# Altium footprint library Foot_Lib_revision.PcbLib: 31 footprints (part 2 of 2)
Each footprint in its own frame and in the unit in brackets; x right, y up, seen from the top. Pads: shape width x height; smd on the part's side, far side on the other; paste and mask are expansions set on the pad; w line width, h text height; cw(c..) or ccw(c..) is an arc to the next point about the centre after c.
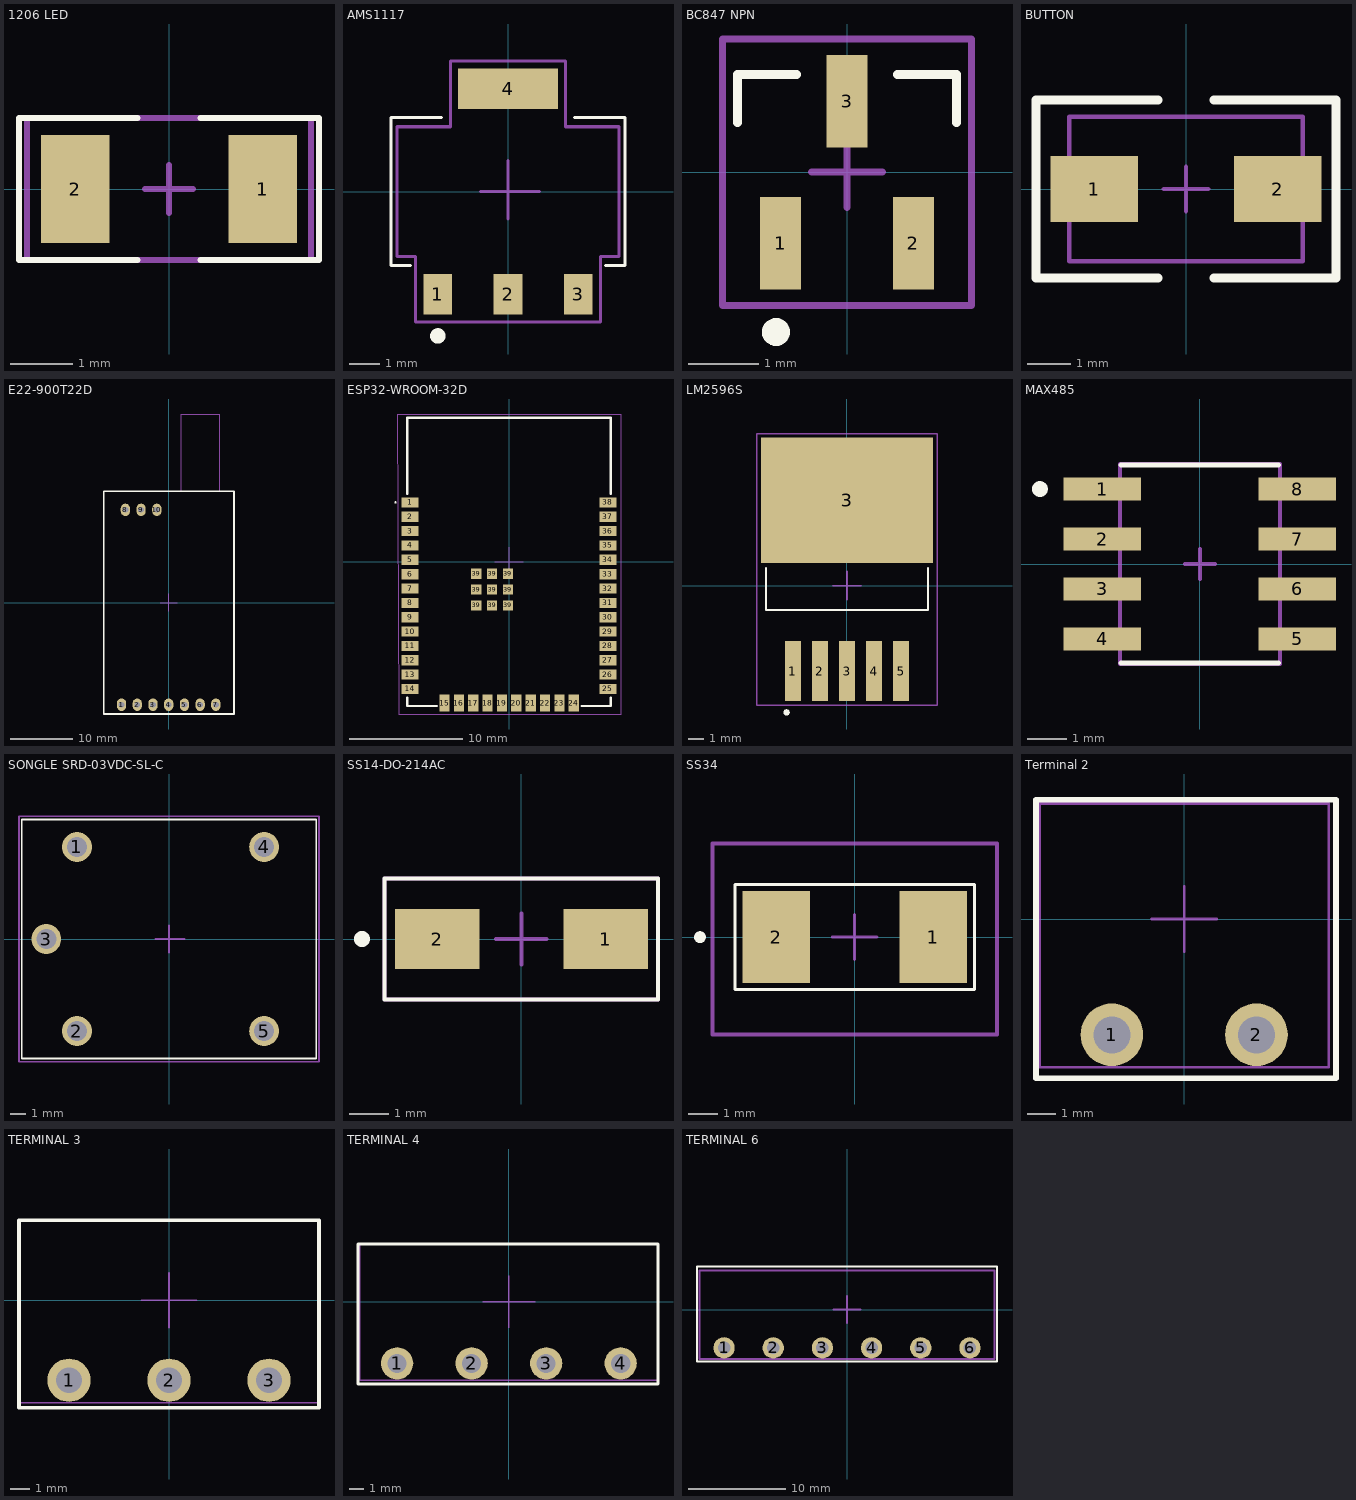
[diagram p1: the footprints below, top view; thin cyan lines are the x and y axes]

## 1206 LED [mm]
pads (2):
  rect 1.1x1.73 smd: 1(1.51,0) 2(-1.51,0)
Top Overlay:
  lines w0.1: -0.508,-1.143 -2.413,-1.143 -2.413,1.143 -0.508,1.143 ; 0.508,-1.143 2.413,-1.143 2.413,1.143 0.508,1.143
Top Component Center:
  lines w0.1: -0.381,0 0,0 ; 0,-0.381 0,0 ; 0,0.381 0,0 ; 0.381,0 0,0 ; -2.286,-1.143 2.286,-1.143 2.286,1.143 -2.286,1.143 -2.286,-1.143
Top Designator:
  text ".Designator" at -0.127,-0.127 h1.52
3D body "LED_1206_Green (1).stp": height 0.9, standoff 0, extent -1.644,-0.806 1.626,0.844

## AMS1117 [mm]
pads (4):
  rect 0.93x1.31 smd: 1(-2.29,-3.345) 2(0,-3.345) 3(2.29,-3.345)
  rect 3.24x1.31 smd: 4(0,3.345)
Top Overlay:
  circle w0.3: c-2.286,-4.699 r0.1
  lines w0.1: -3.175,-2.413 -3.81,-2.413 -3.81,2.413 -3.302,2.413 -2.413,2.413 -2.159,2.413 ; 2.159,2.413 2.442,2.413 3.81,2.413 3.81,-2.413 ; 3.175,-2.413 3.803,-2.413
Top Component Center:
  lines w0.1: -0.889,0 0,0 ; 0,-0.889 0,0 ; 0,1.016 0,0 ; 1.016,0 0,0 ; -3.61,-2.11 -3.61,2.11 -1.87,2.11 -1.87,4.25 1.87,4.25 1.87,2.11 3.61,2.11 3.61,-2.11 3.01,-2.11 3.01,-4.25 -3.01,-4.25 -3.01,-2.11 -3.61,-2.11
Top Designator:
  text ".Designator" at -2.794,0 h1.52
3D body "AMS1117-3.3--3DModel-STEP-56544.STEP": height 1.77, standoff -0.04, extent -3.251,-3.372 3.251,3.626

## BC847 NPN [mm]
pads (3):
  rect 0.59x1.32 smd: 1(-0.95,-1.015) 2(0.95,-1.015) 3(0,1.015)
Top Overlay:
  circle w0.2: c-1.016,-2.286 r0.1
  lines w0.127: -1.566,0.712 -1.566,1.397 -0.721,1.397 ; 0.72,1.397 1.565,1.397 1.565,0.712
Top Component Center:
  lines w0.1: -0.508,0 0,0 ; 0,-0.508 0,0 ; 0,0.508 0,0 ; 0.508,0 0,0 ; -1.778,-1.905 1.778,-1.905 1.778,1.905 -1.778,1.905 -1.778,-1.905
Top Designator:
  text ".Designator" at -0.127,-0.127 h1.52
3D body "step_temp.STEP": height 1.3, standoff 0, extent -1.45,-1.185 1.45,1.185

## BUTTON [mm]
pads (2):
  rect 2x1.5 smd: 1(-2.1,0) 2(2.1,0)
Top Overlay:
  lines w0.2: -0.635,-2.032 -3.429,-2.032 -3.429,2.032 -0.635,2.032 ; 0.635,-2.032 3.429,-2.032 3.429,2.032 0.635,2.032
Top Component Center:
  lines w0.1: -0.508,0 0,0 ; 0,-0.508 0,0 ; 0,0.508 0,0 ; 0.508,0 0,0 ; -2.667,-1.651 -2.667,1.651 2.667,1.651 2.667,-1.651 -2.667,-1.651
Top Designator:
  text ".Designator" at -1.397,-0.127 h1.52
3D body "skrkaee010.stp": height 2, standoff 0, extent -2.4,-1.524 2.4,1.376

## E22-900T22D [mm]
pads (10):
  oval 1.5x2 hole 0.95 mask+0.05: 1(-7.62,-16.5) 2(-5.08,-16.5) 3(-2.54,-16.5) 4(0,-16.5) 5(2.54,-16.5) 6(5.08,-16.5) 7(7.62,-16.5) 8(-7,15) 9(-4.46,15) 10(-1.92,15)
Top Overlay:
  lines w0.3: -10.5,-18 -10.5,18 10.58,18 10.58,-18 -10.5,-18
Top Component Center:
  lines w0.1: -1.4,0 0,0 ; 0,-1.4 0,0 ; 0,1.4 0,0 ; 1.4,0 0,0 ; 2.032,18.034 2.032,30.48 8.255,30.48 8.255,18.034 ; -10.5,-18 -10.5,18 10.6,18 10.6,-18 -10.5,-18
Top Designator:
  text ".Designator" at -0.127,-0.127 h1.52
3D body "E32-433T20DTyitteerstnoluyyp.STEP": height 7.9, standoff -5.72, extent -10.47,-18.02 10.53,30.48

## ESP32-WROOM-32D [mm]
pads (47):
  rect 1.5x0.9 smd: 1(-8.743,5.259) 2(-8.743,3.989) 3(-8.743,2.719) 4(-8.743,1.449) 5(-8.743,0.179) 6(-8.743,-1.091) 7(-8.743,-2.361) 8(-8.743,-3.631) 9(-8.743,-4.901) 10(-8.743,-6.171) 11(-8.743,-7.441) 12(-8.743,-8.711) 13(-8.743,-9.981) 14(-8.743,-11.251) 25(8.757,-11.251) 26(8.757,-9.981) 27(8.757,-8.711) 28(8.757,-7.441) 29(8.757,-6.171) 30(8.757,-4.901) 31(8.757,-3.631) 32(8.757,-2.361) 33(8.757,-1.091) 34(8.757,0.179) 35(8.757,1.449) 36(8.757,2.719) 37(8.757,3.989) 38(8.757,5.259)
  rect 0.9x1.5 smd: 15(-5.703,-12.501) 16(-4.433,-12.501) 17(-3.163,-12.501) 18(-1.893,-12.501) 19(-0.623,-12.501) 20(0.647,-12.501) 21(1.917,-12.501) 22(3.187,-12.501) 23(4.457,-12.501) 24(5.727,-12.501)
  rect 0.9x0.9 smd: 39(-2.893,-3.861) 39(-2.893,-2.461) 39(-2.893,-1.061) 39(-1.493,-3.861) 39(-1.493,-2.461) 39(-1.493,-1.061) 39(-0.093,-3.861) 39(-0.093,-2.461) 39(-0.093,-1.061)
Top Overlay:
  lines w0.1: -10.093,5.259 ccw(c-10.043,5.259) -9.993,5.259 ccw(c-10.043,5.259) -10.093,5.259
  lines w0.2: -8.993,-12.001 -8.993,-12.751 -6.393,-12.751 ; -8.993,5.999 -8.993,12.749 9.007,12.749 9.007,5.999 ; 6.407,-12.751 9.007,-12.751 9.007,-12.001
Top Component Center:
  lines w0.1: -1.263,-0.001 0.007,-0.001 ; 0.007,-1.271 0.007,-0.001 ; 0.007,1.269 0.007,-0.001 ; 1.277,-0.001 0.007,-0.001 ; -9.899,13.08 -9.772,-13.463 5.087,-13.463 9.659,-13.463 9.913,-13.463 9.913,13.08 -9.899,13.08
Top Designator:
  text ".Designator" at -0.125,-0.127 h1.52
3D body "ESP-32 .step": height 2.61, standoff -0.1, extent -8.966,-12.6 8.934,12.8

## LM2596S [mm]
pads (6):
  rect 0.99x3.79 smd: 1(-3.4,-5.375) 2(-1.7,-5.375) 3(0,-5.375) 4(1.7,-5.375) 5(3.4,-5.375)
  rect 10.84x7.88 smd paste-6: 3(0,5.375)
Top Overlay:
  circle w0.2: c-3.8,-7.975 r0.1
  lines w0.127: -5.08,1.115 -5.08,-1.528 5.08,-1.528 5.08,1.115
Top Paste:
  region: 5.15,8.765 5.15,7.245 3.9,7.245 3.9,8.765
  region: 5.15,3.505 5.15,1.985 3.9,1.985 3.9,3.505
  region: 5.15,6.135 5.15,4.615 3.9,4.615 3.9,6.135
  region: 3.34,8.765 3.34,7.245 2.09,7.245 2.09,8.765
  region: 3.34,3.505 3.34,1.985 2.09,1.985 2.09,3.505
  region: 3.34,6.135 3.34,4.615 2.09,4.615 2.09,6.135
  region: 1.53,8.765 1.53,7.245 0.28,7.245 0.28,8.765
  region: 1.53,3.505 1.53,1.985 0.28,1.985 0.28,3.505
  region: 1.53,6.135 1.53,4.615 0.28,4.615 0.28,6.135
  region: -3.9,8.765 -3.9,7.245 -5.15,7.245 -5.15,8.765
  region: -3.9,3.505 -3.9,1.985 -5.15,1.985 -5.15,3.505
  region: -3.9,6.135 -3.9,4.615 -5.15,4.615 -5.15,6.135
  region: -2.09,8.765 -2.09,7.245 -3.34,7.245 -3.34,8.765
  region: -2.09,3.505 -2.09,1.985 -3.34,1.985 -3.34,3.505
  region: -2.09,6.135 -2.09,4.615 -3.34,4.615 -3.34,6.135
  region: -0.28,8.765 -0.28,7.245 -1.53,7.245 -1.53,8.765
  region: -0.28,3.505 -0.28,1.985 -1.53,1.985 -1.53,3.505
  region: -0.28,6.135 -0.28,4.615 -1.53,4.615 -1.53,6.135
Top Component Center:
  lines w0.1: -0.889,0 0,0 ; 0,-0.889 0,0 ; 0,0.889 0,0 ; 0.889,0 0,0 ; -5.67,-7.52 5.67,-7.52 5.67,-1.778 5.67,9.565 -5.67,9.565 -5.67,-1.778 -5.67,-7.52
Top Designator:
  text ".Designator" at -0.125,-0.127 h1.52
3D body "LM2596SX-ADJ.STEP": height 4.65, standoff -0.15, extent -5.08,-5.356 5.08,8.994

## MAX485 [mm]
pads (8):
  rect 1.97x0.59 smd: 1(-2.475,1.905) 2(-2.475,0.635) 3(-2.475,-0.635) 4(-2.475,-1.905) 5(2.475,-1.905) 6(2.475,-0.635) 7(2.475,0.635) 8(2.475,1.905)
Top Overlay:
  circle w0.2: c-4.064,1.905 r0.1
  lines w0.127: -2,-2.52 2,-2.52 ; -2,2.52 2,2.52
Top Component Center:
  lines w0.1: -0.381,0 0,0 ; 0,-0.381 0,0 ; 0,0.381 0,0 ; 0.381,0 0,0 ; -2.032,-2.54 -2.032,2.54 2.032,2.54 2.032,-2.54 -2.032,-2.54
Top Designator:
  text ".Designator" at -0.125,-0.127 h1.52
3D body "step_temp.STEP": height 1.75, standoff 0, extent -3,-2.45 3,2.45

## SONGLE SRD-03VDC-SL-C [mm]
pads (5):
  round 1.95 hole 1.3: 1(-6,6) 2(-6,-6) 3(-8,0) 4(6.2,6) 5(6.2,-6)
Top Overlay:
  lines w0.127: -9.6,-7.8 -9.6,7.8 ; -9.6,-7.8 9.6,-7.8 ; -9.6,-7.8 9.6,-7.8 ; -9.6,-7.8 -9.6,7.8 ; -9.6,7.8 9.6,7.8 ; -9.6,7.8 9.6,7.8 ; 9.6,-7.8 9.6,7.8 ; 9.6,-7.8 9.6,7.8
Top Component Center:
  lines w0.1: -0.889,0 0,0 ; 0,-0.889 0,0 ; 0,0.889 0,0 ; 1.016,0 0,0 ; -9.779,-8.001 -9.779,8.001 9.779,8.001 9.779,-8.001 -9.779,-8.001
Top Designator:
  text ".Designator" at -0.127,-0.127 h1.52
3D body "Relay - SRD-03VDC-SL-C.stp": height 14.94, standoff -3.61, extent -9.347,-7.544 9.347,7.544

## SS14-DO-214AC [mm]
pads (2):
  rect 2.12x1.5 smd: 1(2.115,0) 2(-2.115,0)
Top Overlay:
  circle w0.2: c-4,0 r0.1
  lines w0.1: -3.429,-1.524 3.429,-1.524 3.429,1.524 -3.429,1.524 -3.429,-1.524
Top Component Center:
  lines w0.1: -0.635,0 0,0 ; 0,-0.635 0,0 ; 0,0.635 0,0 ; 0.635,0 0,0 ; -3.429,-1.524 3.429,-1.524 3.429,1.524 -3.429,1.524 -3.429,-1.524
Top Designator:
  text ".Designator" at -0.127,-0.127 h1.52
3D body "S1M--3DModel-STEP-56544.STEP": height 2.7, standoff 0, extent -2.6,-1.362 2.6,1.363

## SS34 [mm]
pads (2):
  rect 2.29x3.12 smd: 1(2.667,0) 2(-2.667,0)
Top Overlay:
  circle w0.2: c-5.25,0 r0.1
  lines w0.1: -4.064,-1.778 4.064,-1.778 4.064,1.778 -4.064,1.778 -4.064,-1.778
Top Component Center:
  lines w0.1: -0.762,0 0,0 ; 0,-0.762 0,0 ; 0,0.762 0,0 ; 0.762,0 0,0
  lines w0.127: -4.826,-3.302 4.826,-3.302 4.826,3.175 -4.826,3.175 -4.826,-3.302
Top Designator:
  text ".Designator" at -0.125,-0.127 h1.52
3D body "S1M--3DModel-STEP-56544.STEP": height 2.7, standoff 0, extent -2.6,-1.362 2.6,1.363

## Terminal 2 [mm]
pads (2):
  round 2.2 hole 1.3 mask+0.05: 1(-2.54,-4.064) 2(2.54,-4.064)
Top Overlay:
  lines w0.2: -5.207,-5.588 4.064,-5.588 5.334,-5.588 5.334,4.191 -5.207,4.191 -5.207,-5.588
Top Component Center:
  lines w0.1: -1.143,0 0,0 ; 0,-1.143 0,0 ; 0,1.143 0,0 ; 1.143,0 0,0 ; -5.08,-5.207 5.08,-5.207 5.08,4.064 -5.08,4.064 -5.08,-5.207
Top Designator:
  text ".Designator" at -0.125,-0.127 h1.52
3D body "15EDGRC-5.08- 02P-14-00A(H).stp": height 7.2, standoff -3.4, extent -5.08,-5.207 5.08,3.993
3D body "15EDGK-5.08-02P-14-00A(H).stp": height 7.67, standoff -3.43, extent -5.08,-3.178 5.08,12.322

## TERMINAL 3 [mm]
pads (3):
  round 2.2 hole 1.3 mask+0.05: 1(-5.08,-4.064) 2(0,-4.064) 3(5.08,-4.064)
Top Overlay:
  lines w0.2: -7.62,-5.461 -7.62,4.064 7.62,4.064 7.62,-5.461 -7.62,-5.461
Top Component Center:
  lines w0.1: -1.397,0 0,0 ; 0,-1.397 0,0 ; 0,1.397 0,0 ; 1.397,0 0,0 ; -7.62,-5.207 7.62,-5.207 7.62,4.064 -7.62,4.064 -7.62,-5.207
Top Designator:
  text ".Designator" at -0.125,-0.127 h1.52
3D body "15EDGRC-5.08- 03P-14-00A(H).stp": height 7.2, standoff -3.4, extent -7.62,-5.136 7.62,4.064
3D body "15EDGK-5.08-03P-14-00A(H).stp": height 7.67, standoff -3.43, extent -7.62,-3.305 7.62,12.195

## TERMINAL 4 [mm]
pads (4):
  round 2.2 hole 1.3 mask+0.05: 1(-7.62,-4.191) 2(-2.54,-4.191) 3(2.54,-4.191) 4(7.62,-4.191)
Top Overlay:
  lines w0.2: -10.287,-5.588 -10.287,3.937 10.16,3.937 10.16,-5.588 -10.287,-5.588
Top Component Center:
  lines w0.1: -1.778,0 0,0 ; 0,-1.778 0,0 ; 0,1.778 0,0 ; 1.778,0 0,0 ; -10.16,-5.334 10.16,-5.334 10.16,3.937 -10.16,3.937 -10.16,-5.334
Top Designator:
  text ".Designator" at -0.125,-0.127 h1.52
3D body "15EDGRC-5.08- 04P-14-00A(H).stp": height 7.2, standoff -3.4, extent -10.16,-5.334 10.16,3.866
3D body "15EDGK-5.08-04P-14-00A(H).stp": height 7.67, standoff -3.43, extent -10.16,-3.435 10.16,12.065

## TERMINAL 6 [mm]
pads (6):
  round 2.2 hole 1.3 mask+0.05: 1(-12.7,-3.937) 2(-7.62,-3.937) 3(-2.54,-3.937) 4(2.54,-3.937) 5(7.62,-3.937) 6(12.7,-3.937)
Top Overlay:
  lines w0.2: -15.494,-5.334 -15.494,4.445 15.494,4.445 15.494,-5.334 -15.494,-5.334
Top Component Center:
  lines w0.2: -1.397,0 0,0 ; 0,-1.397 0,0 ; 0,1.397 0,0 ; 1.397,0 0,0 ; -15.24,-5.08 -15.24,4.064 15.24,4.064 15.24,-5.08 -15.24,-5.08
Top Designator:
  text ".Designator" at -0.125,-0.127 h1.52
3D body "15EDGRC-5.08- 06P-14-00A(H).stp": height 7.2, standoff -3.4, extent -15.24,-5.08 15.24,4.12
3D body "15EDGK-5.08-06P-14-00A(H).stp": height 7.67, standoff -3.43, extent -15.24,-3.054 15.24,12.446